# Altium schematic symbol library D_SHKY_PAIR_COMC.SchLib: 1 symbol
Pins are listed as number, name and electrical type; pins without a type are passive.

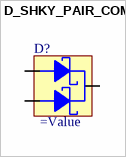
[diagram p0: symbol D_SHKY_PAIR_COMC]

## D_SHKY_PAIR_COMC
designator D?
Diode, Schottky
pins: A1, A2, C